# EAGLE library part 3.5"_TFT_DISPLAY (library InternetRadio)
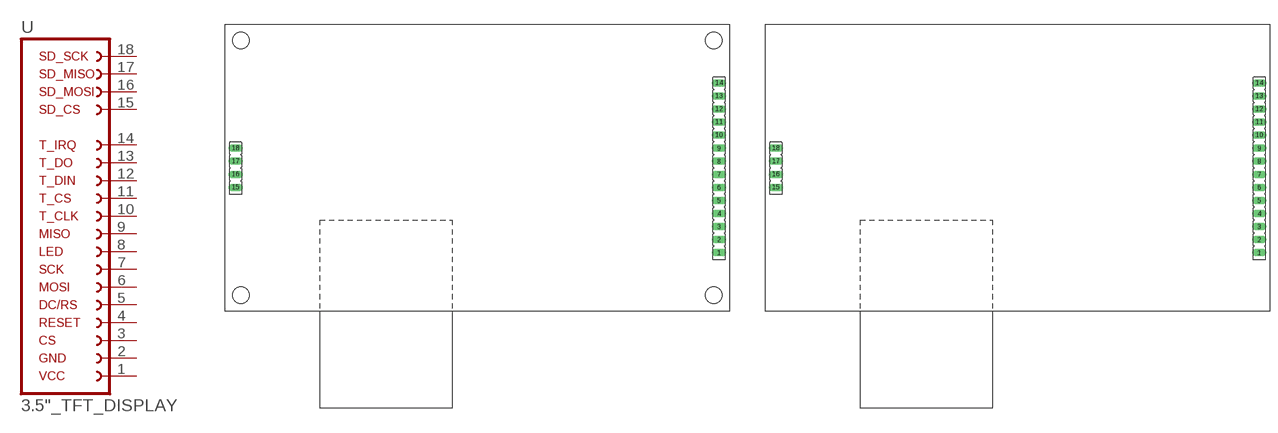
[diagram p0: symbol with the pads of 3.5"_TFT_DISPLAY; footprints 3.5"_TFT_DISPLAY, 3.5"_TFT_DISPLAY-NO_HOLES]

Designator prefix -

## 3.5"_TFT_DISPLAYTFT_DISPLAY  [3.5"_TFT_DISPLAY]
1  1  pas
2  2  pas
3  3  pas
4  4  pas
5  5  pas
6  6  pas
7  7  pas
8  8  pas
9  9  pas
10  10  pas
11  11  pas
12  12  pas
13  13  pas
14  14  pas
15  15  pas
16  16  pas
17  17  pas
18  18  pas

## 3.5"_TFT_DISPLAY  [3.5"_TFT_DISPLAY-NO_HOLES]
Pads as for 3.5"_TFT_DISPLAY

## Footprint 3.5"_TFT_DISPLAY (pad centres in mm)
FEMALE HEADER
drill 0.914 long: 1 46.99,-16.51; 2 46.99,-13.97; 3 46.99,-11.43; 4 46.99,-8.89; 5 46.99,-6.35; 6 46.99,-3.81; 7 46.99,-1.27; 8 46.99,1.27; 9 46.99,3.81; 10 46.99,6.35; 11 46.99,8.89; 12 46.99,11.43; 13 46.99,13.97; 14 46.99,16.51; 15 -46.99,-3.81; 16 -46.99,-1.27; 17 -46.99,1.27; 18 -46.99,3.81
hole 3.175 at 45.974,24.765
hole 3.175 at -45.974,24.765
hole 3.175 at -45.974,-24.765
hole 3.175 at 45.974,-24.765

## Footprint 3.5"_TFT_DISPLAY-NO_HOLES (pad centres in mm)
FEMALE HEADER
drill 0.914 long: 1 46.99,-16.51; 2 46.99,-13.97; 3 46.99,-11.43; 4 46.99,-8.89; 5 46.99,-6.35; 6 46.99,-3.81; 7 46.99,-1.27; 8 46.99,1.27; 9 46.99,3.81; 10 46.99,6.35; 11 46.99,8.89; 12 46.99,11.43; 13 46.99,13.97; 14 46.99,16.51; 15 -46.99,-3.81; 16 -46.99,-1.27; 17 -46.99,1.27; 18 -46.99,3.81